# EAGLE library part AD536ASE (library analog-devices)
ANALOG DEVICES
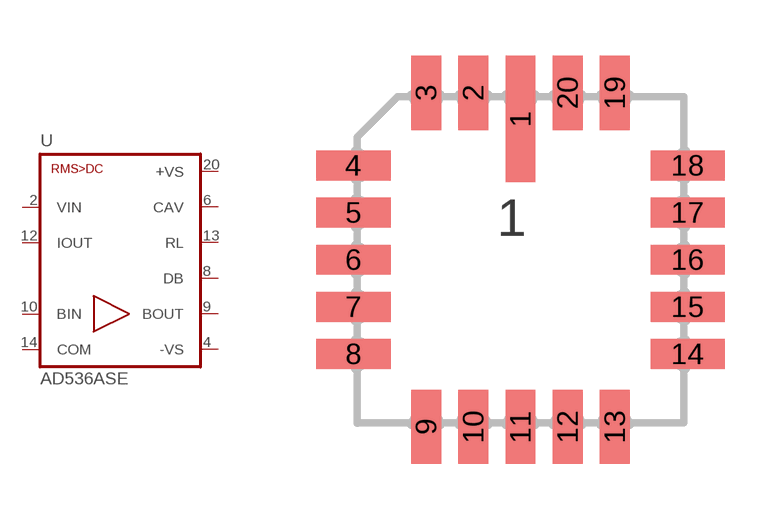
[diagram p9: symbol with the pads of LCC20; footprint LCC20]

Designator prefix U

## AD536ASE  [LCC20]
2  VIN  in
4  -VS  pwr
6  CAV  out
8  DB  out
9  BOUT  out
10  BIN  in
12  IOUT  out
13  RL  pas
14  COM  pwr
20  +VS  pwr

## Footprint LCC20 (pad centres in mm)
PLASTIC LEADED CHIP CARRIER
smd 0.8 x 3.4: 1 0,3.8
smd 0.8 x 2: 2 -1.27,4.5; 3 -2.54,4.5; 9 -2.54,-4.5; 10 -1.27,-4.5; 11 0,-4.5; 12 1.27,-4.5; 13 2.54,-4.5; 19 2.54,4.5; 20 1.27,4.5
smd 2 x 0.8: 4 -4.5,2.54; 5 -4.5,1.27; 6 -4.5,0; 7 -4.5,-1.27; 8 -4.5,-2.54; 14 4.5,-2.54; 15 4.5,-1.27; 16 4.5,0; 17 4.5,1.27; 18 4.5,2.54